# EAGLE library part AXIS (library hal-config)
Axis-Module of MOTMOD Installing loadrt motmod [base_period_nsec=period] [servo_period_nsec=period] [traj_period_nsec=period] [key=SHMEM_KEY] [num_joints=[0-9]] Parameters axis.N.active TRUE when this joint is active axis.N.backlash-corr Backlash or screw compensation raw value axis.N.backlash-filt Backlash or screw compensation filtered value (respecting motion limits) axis.N.backlash-vel Backlash or screw compensation velocity axis.N.coarse-pos-cmd axis.N.error TRUE when this joint has encountered an error, such as a limit switch closing axis.N.f-error The actual following error axis.N.f-error-lim The following error limit axis.N.f-errored TRUE when this joint has exceeded the following error limit axis.N.faulted axis.N.free-pos-cmd The "free planner" commanded position for this joint. axis.N.free-tp-enable TRUE when the "free planner" is enabled for this joint axis.N.free-vel-lim The velocity limit for the free planner axis.N.home-state Reflects the step of homing currently taking place axis.N.homed TRUE if the joint has been homed axis.N.in-position TRUE if the joint is using the "free planner" and has come to a stop axis.N.joint-vel-cmd The joint?s commanded velocity axis.N.kb-jog-active axis.N.neg-hard-limit The negative hard limit for the joint (removed) axis.N.neg-soft-limit The negative soft limit for the joint axis.N.pos-hard-limit The positive hard limit for the joint (removed) axis.N.pos-soft-limit The positive soft limit for the joint axis.N.wheel-jog-active
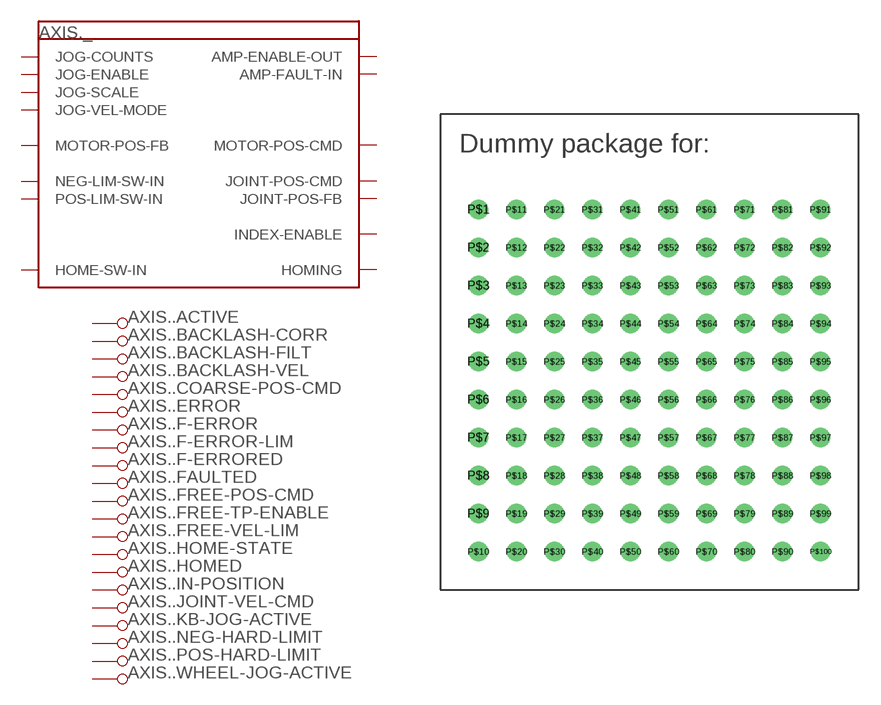
[diagram p1: symbol with the pads of DUMMY; footprint DUMMY]

Designator prefix AXIS.; gates _=AXIS .ACTIVE=PIN_PARAMETER .BACKLASH-CORR=PIN_PARAMETER .BACKLASH-FILT=PIN_PARAMETER .BACKLASH-VEL=PIN_PARAMETER .COARSE-POS-CMD=PIN_PARAMETER .ERROR=PIN_PARAMETER .F-ERROR=PIN_PARAMETER .F-ERROR-LIM=PIN_PARAMETER .F-ERRORED=PIN_PARAMETER .FAULTED=PIN_PARAMETER .FREE-POS-CMD=PIN_PARAMETER .FREE-TP-ENABLE=PIN_PARAMETER .FREE-VEL-LIM=PIN_PARAMETER .HOME-STATE=PIN_PARAMETER .HOMED=PIN_PARAMETER .IN-POSITION=PIN_PARAMETER .JOINT-VEL-CMD=PIN_PARAMETER .KB-JOG-ACTIVE=PIN_PARAMETER .NEG-HARD-LIMIT=PIN_PARAMETER .POS-HARD-LIMIT=PIN_PARAMETER .WHEEL-JOG-ACTIVE=PIN_PARAMETER

## AXIS  [DUMMY]
P$1  .ACTIVE:PIN_PARAMETER
P$2  .BACKLASH-CORR:PIN_PARAMETER
P$3  .BACKLASH-FILT:PIN_PARAMETER
P$4  .BACKLASH-VEL:PIN_PARAMETER
P$5  .COARSE-POS-CMD:PIN_PARAMETER
P$6  .ERROR:PIN_PARAMETER
P$7  .F-ERROR-LIM:PIN_PARAMETER
P$8  .F-ERROR:PIN_PARAMETER
P$9  .F-ERRORED:PIN_PARAMETER
P$10  .FAULTED:PIN_PARAMETER
P$11  .FREE-POS-CMD:PIN_PARAMETER
P$12  .FREE-TP-ENABLE:PIN_PARAMETER
P$13  .FREE-VEL-LIM:PIN_PARAMETER
P$14  .HOME-STATE:PIN_PARAMETER
P$15  .HOMED:PIN_PARAMETER
P$16  .IN-POSITION:PIN_PARAMETER
P$17  .JOINT-VEL-CMD:PIN_PARAMETER
P$18  .KB-JOG-ACTIVE:PIN_PARAMETER
P$19  .NEG-HARD-LIMIT:PIN_PARAMETER
P$20  .POS-HARD-LIMIT:PIN_PARAMETER
P$21  .WHEEL-JOG-ACTIVE:PIN_PARAMETER
P$22  _:AMP-ENABLE-OUT  out
P$23  _:AMP-FAULT-IN  in
P$24  _:HOME-SW-IN  in
P$25  _:HOMING  out
P$26  _:INDEX-ENABLE
P$27  _:JOG-COUNTS  in
P$28  _:JOG-ENABLE  in
P$29  _:JOG-SCALE  in
P$30  _:JOG-VEL-MODE  in
P$31  _:JOINT-POS-CMD  out
P$32  _:JOINT-POS-FB  out
P$33  _:MOTOR-POS-CMD  out
P$34  _:MOTOR-POS-FB  in
P$35  _:NEG-LIM-SW-IN  in
P$36  _:POS-LIM-SW-IN  in

## Footprint DUMMY (pad centres in mm)
drill 0.8: P$1 0,-1.27; P$2 0,-3.81; P$3 0,-6.35; P$4 0,-8.89; P$5 0,-11.43; P$6 0,-13.97; P$7 0,-16.51; P$8 0,-19.05; P$9 0,-21.59; P$10 0,-24.13; P$11 2.54,-1.27; P$12 2.54,-3.81; P$13 2.54,-6.35; P$14 2.54,-8.89; P$15 2.54,-11.43; P$16 2.54,-13.97; P$17 2.54,-16.51; P$18 2.54,-19.05; P$19 2.54,-21.59; P$20 2.54,-24.13; P$21 5.08,-1.27; P$22 5.08,-3.81; P$23 5.08,-6.35; P$24 5.08,-8.89; P$25 5.08,-11.43; P$26 5.08,-13.97; P$27 5.08,-16.51; P$28 5.08,-19.05; P$29 5.08,-21.59; P$30 5.08,-24.13; P$31 7.62,-1.27; P$32 7.62,-3.81; P$33 7.62,-6.35; P$34 7.62,-8.89; P$35 7.62,-11.43; P$36 7.62,-13.97; P$37 7.62,-16.51; P$38 7.62,-19.05; P$39 7.62,-21.59; P$40 7.62,-24.13; P$41 10.16,-1.27; P$42 10.16,-3.81; P$43 10.16,-6.35; P$44 10.16,-8.89; P$45 10.16,-11.43; P$46 10.16,-13.97; P$47 10.16,-16.51; P$48 10.16,-19.05; P$49 10.16,-21.59; P$50 10.16,-24.13; P$51 12.7,-1.27; P$52 12.7,-3.81; P$53 12.7,-6.35; P$54 12.7,-8.89; P$55 12.7,-11.43; P$56 12.7,-13.97; P$57 12.7,-16.51; P$58 12.7,-19.05; P$59 12.7,-21.59; P$60 12.7,-24.13; P$61 15.24,-1.27; P$62 15.24,-3.81; P$63 15.24,-6.35; P$64 15.24,-8.89; P$65 15.24,-11.43; P$66 15.24,-13.97; P$67 15.24,-16.51; P$68 15.24,-19.05; P$69 15.24,-21.59; P$70 15.24,-24.13; P$71 17.78,-1.27; P$72 17.78,-3.81; P$73 17.78,-6.35; P$74 17.78,-8.89; P$75 17.78,-11.43; P$76 17.78,-13.97; P$77 17.78,-16.51; P$78 17.78,-19.05; P$79 17.78,-21.59; P$80 17.78,-24.13; P$81 20.32,-1.27; P$82 20.32,-3.81; P$83 20.32,-6.35; P$84 20.32,-8.89; P$85 20.32,-11.43; P$86 20.32,-13.97; P$87 20.32,-16.51; P$88 20.32,-19.05; P$89 20.32,-21.59; P$90 20.32,-24.13; P$91 22.86,-1.27; P$92 22.86,-3.81; P$93 22.86,-6.35; P$94 22.86,-8.89; P$95 22.86,-11.43; P$96 22.86,-13.97; P$97 22.86,-16.51; P$98 22.86,-19.05; P$99 22.86,-21.59; P$100 22.86,-24.13